# EAGLE library part FC30 (library MAÑE)
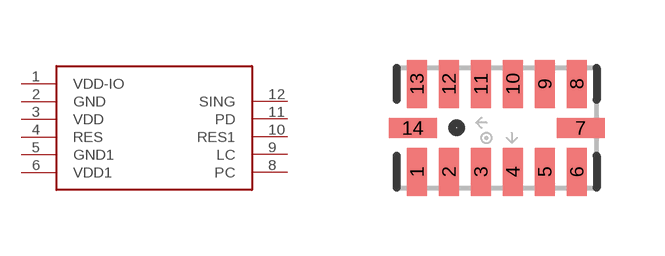
[diagram p10: symbol with the pads of LGA-14; footprint LGA-14]

Designator prefix -

## FC30  [LGA-14]
1  VDD-IO
2  GND
3  VDD
4  RES
5  GND1
6  VDD1
8  PC
9  LC
10  RES1
11  PD
12  SING

## Footprint LGA-14 (pad centres in mm)
smd 0.5 x 1.2: 1 -2,-1.1; 2 -1.2,-1.1; 3 -0.4,-1.1; 4 0.4,-1.1; 5 1.2,-1.1; 6 2,-1.1; 8 2,1.1; 9 1.2,1.1; 10 0.4,1.1; 11 -0.4,1.1; 12 -1.2,1.1; 13 -2,1.1
smd 1.2 x 0.5: 7 2.1,0; 14 -2.1,0